# Altium footprint library MAX232ESE.PcbLib: 1 footprints
Each footprint in its own frame and in the unit in brackets; x right, y up, seen from the top. Pads: shape width x height; smd on the part's side, far side on the other; paste and mask are expansions set on the pad; w line width, h text height; cw(c..) or ccw(c..) is an arc to the next point about the centre after c.
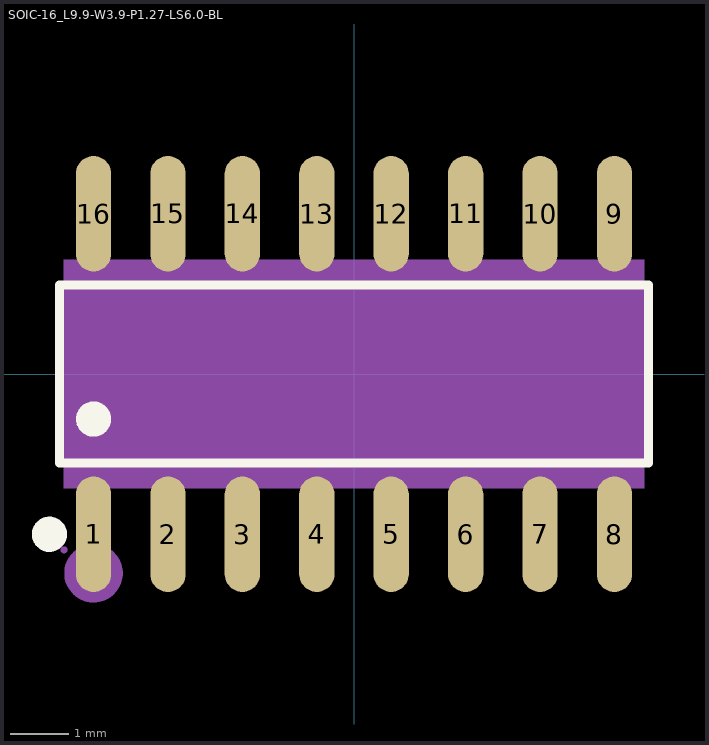
[diagram p0: the footprint, top view; thin cyan lines are the x and y axes]

## SOIC-16_L9.9-W3.9-P1.27-LS6.0-BL [mil]
pads (16):
  oval 23.7x77.6 smd: 1(-175,-107.7) 2(-125,-107.7) 3(-75,-107.7) 4(-25,-107.7) 5(25,-107.7) 6(75,-107.7) 7(125,-107.7) 8(175,-107.7) 9(175,107.7) 10(125,107.7) 11(75,107.7) 12(25,107.7) 13(-25,107.7) 14(-75,107.7) 15(-125,107.7) 16(-175,107.7)
Top Overlay:
  circle w11.81: c-204.66,-107.7 r5.91
  circle w11.81: c-175,-30.28 r5.91
  lines w6: -197.88,-59.9 197.88,-59.9 197.88,59.9 -197.88,59.9 -197.88,-59.9
Mechanical 4:
  region: -194.88,-76.77 -194.88,76.77 194.88,76.77 194.88,-76.77
Mechanical 5:
  pour cut-out: 166.53,90.94 166.53,76.38 183.47,76.38 183.47,90.94
  region: 166.53,118.11 166.53,90.55 183.47,90.55 183.47,118.11
  pour cut-out: 116.53,90.94 116.53,76.38 133.47,76.38 133.47,90.94
  region: 116.53,118.11 116.53,90.55 133.47,90.55 133.47,118.11
  pour cut-out: 66.53,90.94 66.53,76.38 83.47,76.38 83.47,90.94
  region: 66.53,118.11 66.53,90.55 83.47,90.55 83.47,118.11
  pour cut-out: 16.54,90.94 16.54,76.38 33.47,76.38 33.47,90.94
  region: 16.54,118.11 16.54,90.55 33.47,90.55 33.47,118.11
  pour cut-out: -33.47,90.94 -33.47,76.38 -16.54,76.38 -16.54,90.94
  region: -33.47,118.11 -33.47,90.55 -16.54,90.55 -16.54,118.11
  pour cut-out: -83.47,90.94 -83.47,76.38 -66.53,76.38 -66.53,90.94
  region: -83.47,118.11 -83.47,90.55 -66.53,90.55 -66.53,118.11
  pour cut-out: -133.47,90.94 -133.47,76.38 -116.53,76.38 -116.53,90.94
  region: -133.47,118.11 -133.47,90.55 -116.53,90.55 -116.53,118.11
  pour cut-out: -183.47,90.94 -183.47,76.38 -166.53,76.38 -166.53,90.94
  region: -183.47,118.11 -183.47,90.55 -166.53,90.55 -166.53,118.11
  pour cut-out: 166.53,-90.94 166.53,-76.38 183.47,-76.38 183.47,-90.94
  region: 166.53,-118.11 166.53,-90.55 183.47,-90.55 183.47,-118.11
  pour cut-out: 116.53,-90.94 116.53,-76.38 133.47,-76.38 133.47,-90.94
  region: 116.53,-118.11 116.53,-90.55 133.47,-90.55 133.47,-118.11
  pour cut-out: 66.53,-90.94 66.53,-76.38 83.47,-76.38 83.47,-90.94
  region: 66.53,-118.11 66.53,-90.55 83.47,-90.55 83.47,-118.11
  pour cut-out: 16.54,-90.94 16.54,-76.38 33.47,-76.38 33.47,-90.94
  region: 16.54,-118.11 16.54,-90.55 33.47,-90.55 33.47,-118.11
  pour cut-out: -33.47,-90.94 -33.47,-76.38 -16.54,-76.38 -16.54,-90.94
  region: -33.47,-118.11 -33.47,-90.55 -16.54,-90.55 -16.54,-118.11
  pour cut-out: -83.47,-90.94 -83.47,-76.38 -66.53,-76.38 -66.53,-90.94
  region: -83.47,-118.11 -83.47,-90.55 -66.53,-90.55 -66.53,-118.11
  pour cut-out: -133.47,-90.94 -133.47,-76.38 -116.53,-76.38 -116.53,-90.94
  region: -133.47,-118.11 -133.47,-90.55 -116.53,-90.55 -116.53,-118.11
  pour cut-out: -183.47,-90.94 -183.47,-76.38 -166.53,-76.38 -166.53,-90.94
  region: -183.47,-118.11 -183.47,-90.55 -166.53,-90.55 -166.53,-118.11
Mechanical 6:
  circle w2.36: c-194.88,-118.11 r1.18
Mechanical 15:
  circle w19.68: c-175,-133.86 r9.84